# Altium schematic symbol library Schlib_Kulon_Spb.SchLib: 1 symbol
Pins are listed as number, name and electrical type; pins without a type are passive.

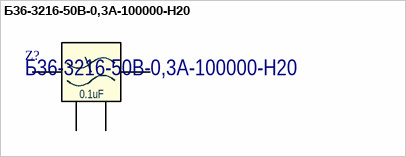
[diagram p0: symbol Б36-3216-50В-0,3А-100000-Н20]

## Б36-3216-50В-0,3А-100000-Н20
designator Z?
Terminal Filter Capacitors 50VDC 6A; Manufacturer: ООО "Кулон"; ТУ: ШУКР.431145.003ТУ; Part Number: Б36-3216-50В-0,3А-100000-Н20; Package: 1206
footprint B36_1206 (3-terminal capacitor)
pins: 1 IN, 2 GND, 3 OUT, 4 GND
text: 0.1uF